# EAGLE library part SWITCH (library ME433_Breakout)
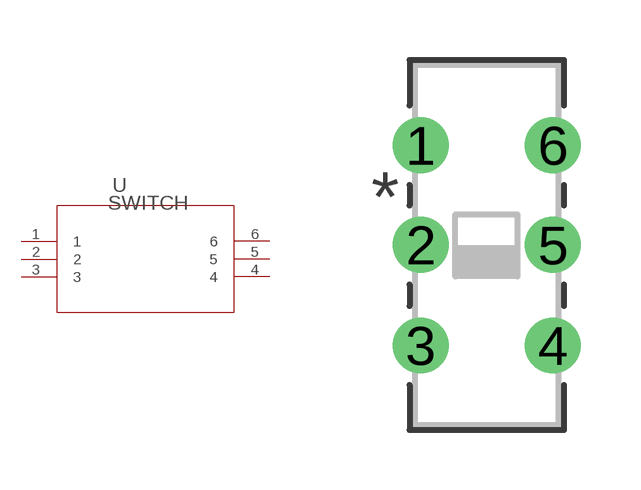
[diagram p1: symbol with the pads of SWITCH_011CQN; footprint SWITCH_011CQN]

Designator prefix U

## SWITCH (COPYRIGHT: Copyright (C) 2022 Ultra Librarian. All rights reserved.; DIGI-KEY_PART_NUMBER_1: 401-2001-ND; MANUFACTURER_PART_NUMBER: JS202011CQN; MFR_NAME: C&K)  [SWITCH_011CQN]
1  1  pas
2  2  pas
3  3  pas
4  4  pas
5  5  pas
6  6  pas

## Footprint SWITCH_011CQN (pad centres in mm)
drill 0.889 pad 1.397: 1 0,0; 2 0,-2.489; 3 0,-5.004; 4 3.302,-5.004; 5 3.302,-2.489; 6 3.302,0